# EAGLE library part PANELBUS-TFP401A (library FlashPCB_ICs)
TFP401A - IC RECEIVER DVI 100HTQFP Technical Specifications: Receiver 100-HTQFP (14x14) PanelBus Digital Receiver Supports up to 165MHz Pixel Rate DVI Compliant, True-Color 24 Bit/Pixel Supply Voltage: 1.8V~3.3V Low Noise & Power Dissipation with Exposed Pad HSYNC Jitter Immunity Component Search: TFP401A <https://www.flashpcb.com/components> Datasheet: TI PanelBus Digital Receiver. datasheet (Rev. A) <https://www.ti.com/lit/ds/symlink/tfp401a-ep.pdf?HQS=dis-dk-null-digikeymode-dsf-pf-null-wwe&ts=1685458135644&ref_url=https%253A%252F%252Fwww.ti.com%252Fgeneral%252Fdocs%252Fsuppproductinfo.tsp%253FdistId%253D10%2526gotoUrl%253Dhttps%253A%252F%252Fwww.ti.com%252Flit%252Fgpn%252Ftfp401a-ep>
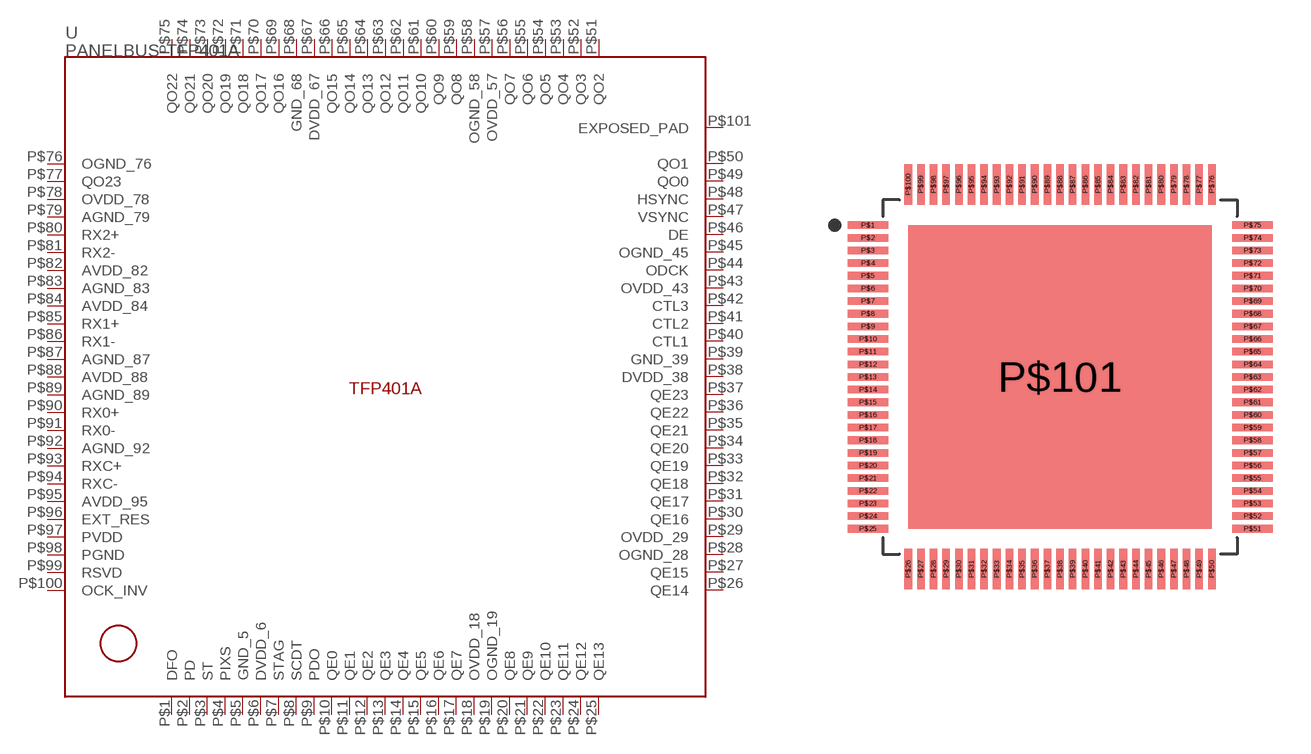
[diagram p70: symbol with the pads of 100-QFP(14X14)-EXPOSED-PAD; footprint 100-QFP(14X14)-EXPOSED-PAD]

Designator prefix U

## PANELBUS-TFP401A  [100-QFP(14X14)-EXPOSED-PAD]
P$1  DFO
P$2  PD
P$3  ST
P$4  PIXS
P$5  GND_5
P$6  DVDD_6
P$7  STAG
P$8  SCDT
P$9  PDO
P$10  QE0
P$11  QE1
P$12  QE2
P$13  QE3
P$14  QE4
P$15  QE5
P$16  QE6
P$17  QE7
P$18  OVDD_18
P$19  OGND_19
P$20  QE8
P$21  QE9
P$22  QE10
P$23  QE11
P$24  QE12
P$25  QE13
P$26  QE14
P$27  QE15
P$28  OGND_28
P$29  OVDD_29
P$30  QE16
P$31  QE17
P$32  QE18
P$33  QE19
P$34  QE20
P$35  QE21
P$36  QE22
P$37  QE23
P$38  DVDD_38
P$39  GND_39
P$40  CTL1
P$41  CTL2
P$42  CTL3
P$43  OVDD_43
P$44  ODCK
P$45  OGND_45
P$46  DE
P$47  VSYNC
P$48  HSYNC
P$49  QO0
P$50  QO1
P$51  QO2
P$52  QO3
P$53  QO4
P$54  QO5
P$55  QO6
P$56  QO7
P$57  OVDD_57
P$58  OGND_58
P$59  QO8
P$60  QO9
P$61  QO10
P$62  QO11
P$63  QO12
P$64  QO13
P$65  QO14
P$66  QO15
P$67  DVDD_67
P$68  GND_68
P$69  QO16
P$70  QO17
P$71  QO18
P$72  QO19
P$73  QO20
P$74  QO21
P$75  QO22
P$76  OGND_76
P$77  QO23
P$78  OVDD_78
P$79  AGND_79
P$80  RX2+
P$81  RX2-
P$82  AVDD_82
P$83  AGND_83
P$84  AVDD_84
P$85  RX1+
P$86  RX1-
P$87  AGND_87
P$88  AVDD_88
P$89  AGND_89
P$90  RX0+
P$91  RX0-
P$92  AGND_92
P$93  RXC+
P$94  RXC-
P$95  AVDD_95
P$96  EXT_RES
P$97  PVDD
P$98  PGND
P$99  RSVD
P$100  OCK_INV
P$101  EXPOSED_PAD

## Footprint 100-QFP(14X14)-EXPOSED-PAD (pad centres in mm)
smd 1.6 x 0.3: P$1 -7.6,6; P$2 -7.6,5.5; P$3 -7.6,5; P$4 -7.6,4.5; P$5 -7.6,4; P$6 -7.6,3.5; P$7 -7.6,3; P$8 -7.6,2.5; P$9 -7.6,2; P$10 -7.6,1.5; P$11 -7.6,1; P$12 -7.6,0.5; P$13 -7.6,0; P$14 -7.6,-0.5; P$15 -7.6,-1; P$16 -7.6,-1.5; P$17 -7.6,-2; P$18 -7.6,-2.5; P$19 -7.6,-3; P$20 -7.6,-3.5; P$21 -7.6,-4; P$22 -7.6,-4.5; P$23 -7.6,-5; P$24 -7.6,-5.5; P$25 -7.6,-6; P$51 7.6,-6; P$52 7.6,-5.5; P$53 7.6,-5; P$54 7.6,-4.5; P$55 7.6,-4; P$56 7.6,-3.5; P$57 7.6,-3; P$58 7.6,-2.5; P$59 7.6,-2; P$60 7.6,-1.5; P$61 7.6,-1; P$62 7.6,-0.5; P$63 7.6,0; P$64 7.6,0.5; P$65 7.6,1; P$66 7.6,1.5; P$67 7.6,2; P$68 7.6,2.5; P$69 7.6,3; P$70 7.6,3.5; P$71 7.6,4; P$72 7.6,4.5; P$73 7.6,5; P$74 7.6,5.5; P$75 7.6,6
smd 0.3 x 1.6: P$26 -6,-7.6; P$27 -5.5,-7.6; P$28 -5,-7.6; P$29 -4.5,-7.6; P$30 -4,-7.6; P$31 -3.5,-7.6; P$32 -3,-7.6; P$33 -2.5,-7.6; P$34 -2,-7.6; P$35 -1.5,-7.6; P$36 -1,-7.6; P$37 -0.5,-7.6; P$38 0,-7.6; P$39 0.5,-7.6; P$40 1,-7.6; P$41 1.5,-7.6; P$42 2,-7.6; P$43 2.5,-7.6; P$44 3,-7.6; P$45 3.5,-7.6; P$46 4,-7.6; P$47 4.5,-7.6; P$48 5,-7.6; P$49 5.5,-7.6; P$50 6,-7.6; P$76 6,7.6; P$77 5.5,7.6; P$78 5,7.6; P$79 4.5,7.6; P$80 4,7.6; P$81 3.5,7.6; P$82 3,7.6; P$83 2.5,7.6; P$84 2,7.6; P$85 1.5,7.6; P$86 1,7.6; P$87 0.5,7.6; P$88 0,7.6; P$89 -0.5,7.6; P$90 -1,7.6; P$91 -1.5,7.6; P$92 -2,7.6; P$93 -2.5,7.6; P$94 -3,7.6; P$95 -3.5,7.6; P$96 -4,7.6; P$97 -4.5,7.6; P$98 -5,7.6; P$99 -5.5,7.6; P$100 -6,7.6
smd 12 x 12: P$101 0,0